# EAGLE library part NC7S*332 (library fairchild-tinylogic)
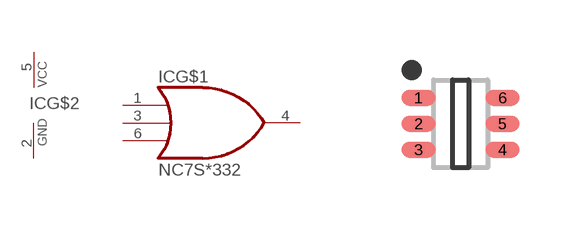
[diagram p17: symbol with the pads of SOT65P210X110-6AN_SC88_SC70-6; footprint SOT65P210X110-6AN_SC88_SC70-6]

Designator prefix IC; gates G$1=3OR G$2=PWRN

## NC7SZ332P6X  [SOT65P210X110-6AN_SC88_SC70-6]
1  G$1:A  in
2  G$2:GND  pwr
3  G$1:B  in
4  G$1:Y  out
5  G$2:VCC  pwr
6  G$1:C  in

## Footprint SOT65P210X110-6AN_SC88_SC70-6 (pad centres in mm)
smd 0.85 x 0.4: 1 -1.05,0.65; 2 -1.05,0; 3 -1.05,-0.65; 4 1.05,-0.65; 5 1.05,0; 6 1.05,0.65